# Altium integrated library Analog Devices RF IF Detectors.IntLib: 109 symbols (part 3 of 5)
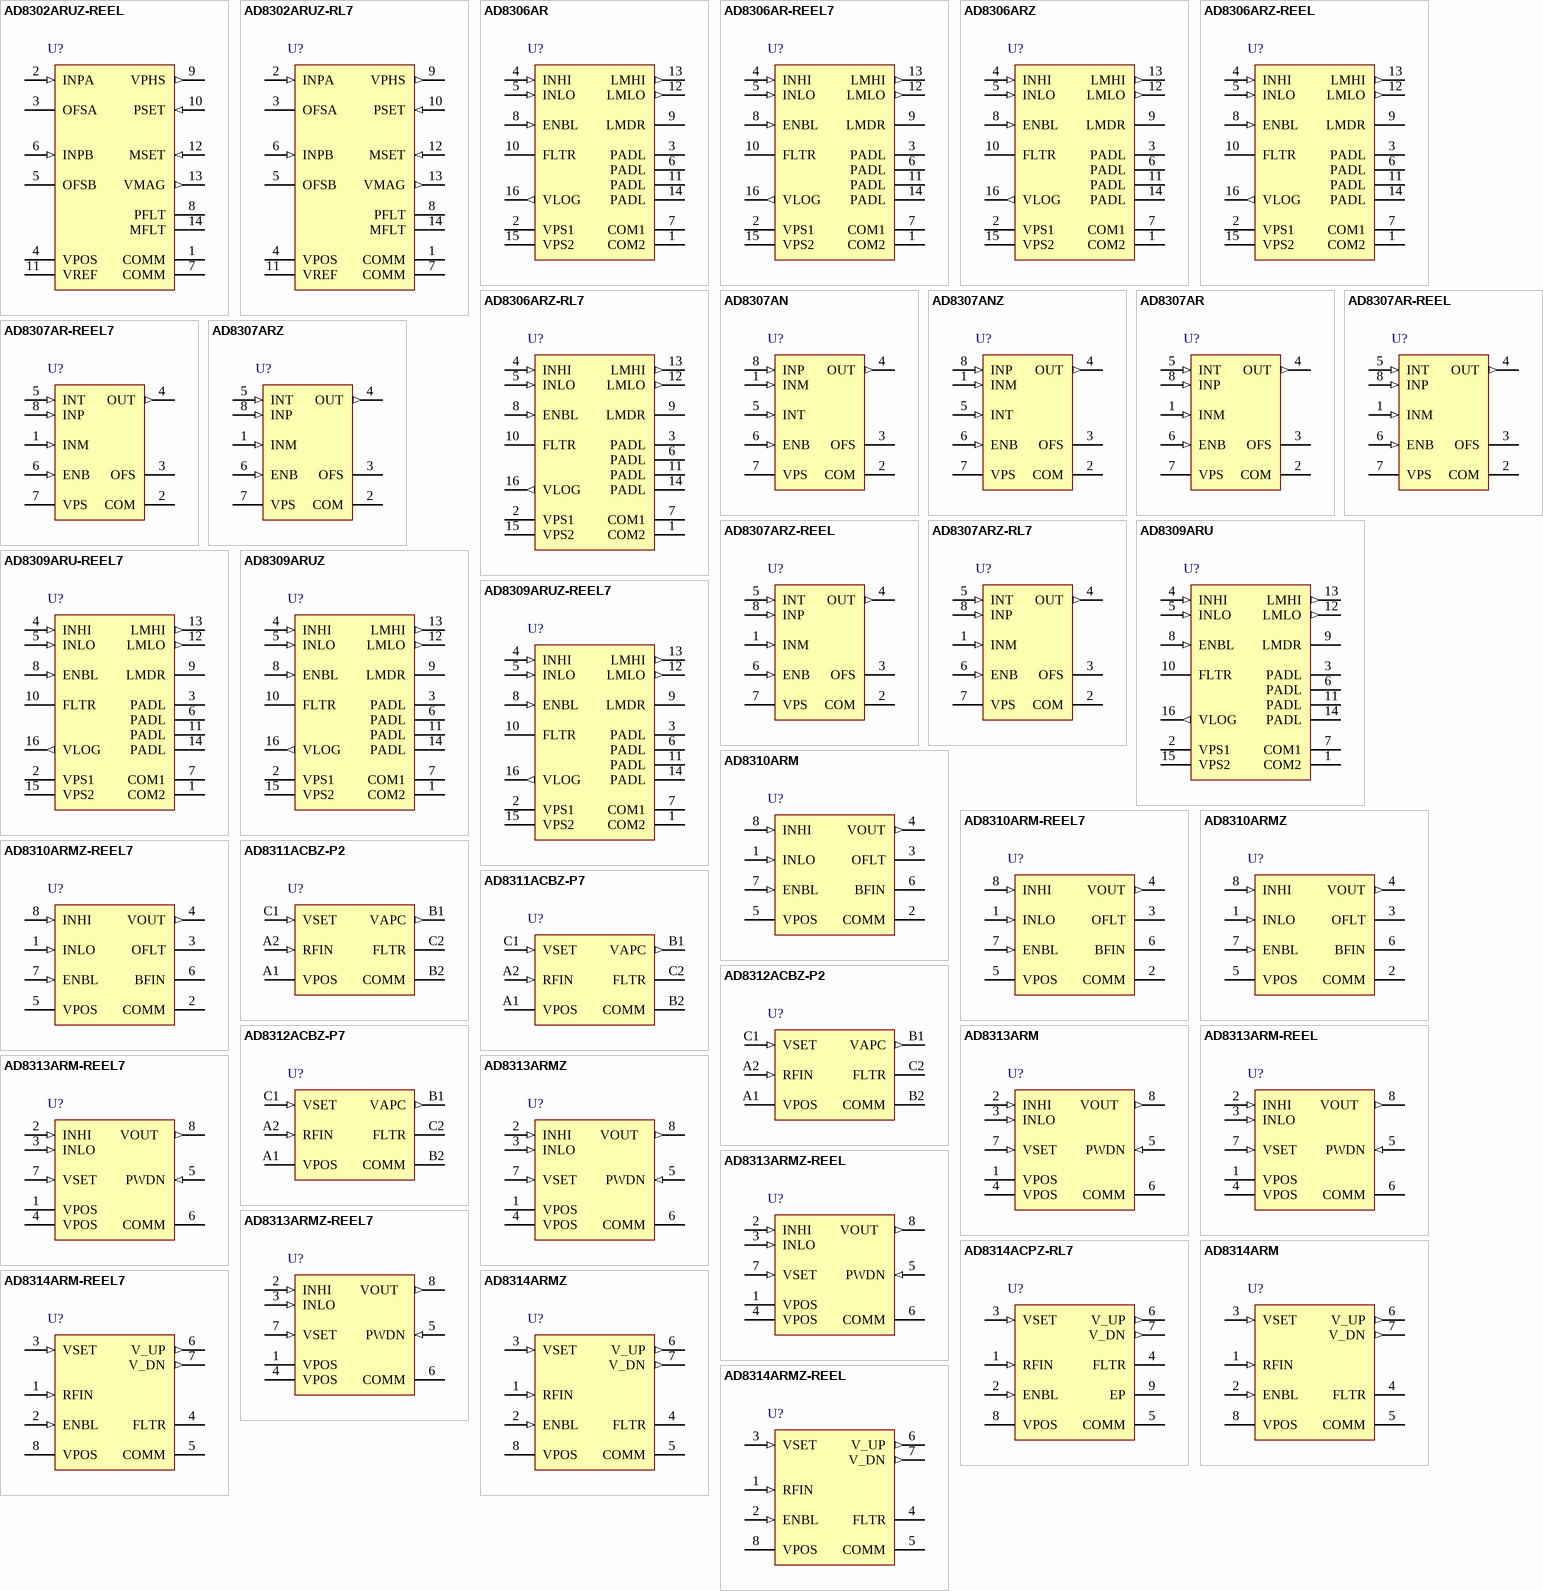
[diagram p5: symbols AD8302ARUZ-REEL to AD8314ARMZ-REEL]

## AD8313ARMZ-REEL
designator U?
0.1 GHz to 2.5 GHz 70 dB Logarithmic Detector/Controller, 40ns Response Time, RM-8, Pb-Free, 3000 Reel; Product Description: Industry Standard; RF Frequency (MHz): 100 to 2500; Dynamic Range (dB): 70dB; Temp Stability (dB): 1.25dB; Voltage Supply (V): 2.7 to 5.5; Supply Current: 14mA; DatasheetVersion: Rev. D; PackageVersion: Aug-2005; PackageReference: RM-8; PackageDescription: 8-Lead Mini Small Outline Package [MSOP]; Response Time (ns typ): 40ns; Code_JEDEC: MO-187-AA; ComponentLink1Description: Manufacturer URL; ComponentLink1URL: www.analog.com; ComponentLink2Description: Datasheet; ComponentLink2URL: http://www.analog.com/static/imported-files/data_sheets/AD8313.pdf; ComponentLink3Description: Package Specification; ComponentLink3URL: http://www.analog.com/static/imported-files/packages/PKG_PDF/MSOP%28RM%29/RM_8.pdf
footprint ADI-RM-8_N (TSOP, 8-Leads, Body 3x3mm, Pitch 0.65mm, IPC Medium Density)
footprint ADI-RM-8_L (TSOP, 8-Leads, Body 3x3mm, Pitch 0.65mm, IPC High Density)
footprint ADI-RM-8_M (TSOP, 8-Leads, Body 3x3mm, Pitch 0.65mm, IPC Low Density)
pins: 1 VPOS (power) "Positive Supply Voltage (VPOS), 2.7 V to 5.5 V.", 2 INHI (in) "Noninverting Input. This input should be ac-coupled.", 3 INLO (in) "Inverting Input. This input should be ac-coupled.", 4 VPOS (power) "Positive Supply Voltage (VPOS), 2.7 V to 5.5 V.", 5 PWDN (in) "Connect Pin to Ground for Normal Operating Mode. Connect this pin to the supply for power-down mode.", 6 COMM (power) "Device Common", 7 VSET (in) "Setpoint Input for Operation in Controller Mode. To operate in RSSI mode, short VSET and VOUT.", 8 VOUT   (out) "Logarithmic/Error Output."

## AD8313ARMZ-REEL7
designator U?
0.1 GHz to 2.5 GHz 70 dB Logarithmic Detector/Controller, 40ns Response Time, RM-8, Pb-Free, 1000 Reel; Product Description: Industry Standard; RF Frequency (MHz): 100 to 2500; Dynamic Range (dB): 70dB; Temp Stability (dB): 1.25dB; Voltage Supply (V): 2.7 to 5.5; Supply Current: 14mA; DatasheetVersion: Rev. D; PackageVersion: Aug-2005; PackageReference: RM-8; PackageDescription: 8-Lead Mini Small Outline Package [MSOP]; Response Time (ns typ): 40ns; Code_JEDEC: MO-187-AA; ComponentLink1Description: Manufacturer URL; ComponentLink1URL: www.analog.com; ComponentLink2Description: Datasheet; ComponentLink2URL: http://www.analog.com/static/imported-files/data_sheets/AD8313.pdf; ComponentLink3Description: Package Specification; ComponentLink3URL: http://www.analog.com/static/imported-files/packages/PKG_PDF/MSOP%28RM%29/RM_8.pdf
footprint ADI-RM-8_N (TSOP, 8-Leads, Body 3x3mm, Pitch 0.65mm, IPC Medium Density)
footprint ADI-RM-8_L (TSOP, 8-Leads, Body 3x3mm, Pitch 0.65mm, IPC High Density)
footprint ADI-RM-8_M (TSOP, 8-Leads, Body 3x3mm, Pitch 0.65mm, IPC Low Density)
pins: 1 VPOS (power) "Positive Supply Voltage (VPOS), 2.7 V to 5.5 V.", 2 INHI (in) "Noninverting Input. This input should be ac-coupled.", 3 INLO (in) "Inverting Input. This input should be ac-coupled.", 4 VPOS (power) "Positive Supply Voltage (VPOS), 2.7 V to 5.5 V.", 5 PWDN (in) "Connect Pin to Ground for Normal Operating Mode. Connect this pin to the supply for power-down mode.", 6 COMM (power) "Device Common", 7 VSET (in) "Setpoint Input for Operation in Controller Mode. To operate in RSSI mode, short VSET and VOUT.", 8 VOUT   (out) "Logarithmic/Error Output."

## AD8314ACPZ-RL7
designator U?
100 MHz to 2.7 GHz, 45 dB RF Detector/Controller, 70ns Response Time, CP-8-1, Pb-Free, 3000 Reel; Product Description: Industry Standard; RF Frequency (MHz): 100 to 2700; Dynamic Range (dB): 45dB; Temp Stability (dB): 1dB; Voltage Supply (V): 2.7 to 5.5; Supply Current: 4.5mA; DatasheetVersion: Rev. B; PackageVersion: 031207-A; PackageReference: CP-8-1; PackageDescription: 8-Lead Lead Frame Chip Scale Package [LFCSP_VD]; Response Time (ns typ): 70ns; ComponentLink1Description: Manufacturer URL; ComponentLink1URL: www.analog.com; ComponentLink2Description: Datasheet; ComponentLink2URL: http://www.analog.com/static/imported-files/data_sheets/AD8314.pdf; ComponentLink3Description: Package Specification; ComponentLink3URL: http://www.analog.com/static/imported-files/packages/PKG_PDF/LFCSP(CP)/CP-8/CP_8_1.pdf
footprint ADI-CP-8-1_N (SON, 8-Leads, Body 3x2mm, Pitch 0.5mm, Thermal Pad 1.75x0.45mm, IPC Medium Density)
footprint ADI-CP-8-1_L (SON, 8-Leads, Body 3x2mm, Pitch 0.5mm, Thermal Pad 1.75x0.45mm, IPC High Density)
footprint ADI-CP-8-1_M (SON, 8-Leads, Body 3x2mm, Pitch 0.5mm, Thermal Pad 1.75x0.45mm, IPC Low Density)
pins: 1 RFIN (in) "RF Input.", 2 ENBL (in) "Connect Pin to VS for Normal Operation. Connect pin to ground for disable mode.", 3 VSET (in) "Setpoint Input for Operation in Controller Mode. To operate in detector mode connect VSET to V_UP.", 4 FLTR "Connection for an External Capacitor to Slow the Response of the Output. Capacitor is connected between FLTR and V_UP.", 5 COMM (power) "Device Common (Ground)", 6 V_UP (out) "Logarithmic Output. Output voltage increases with increasing input amplitude.", 7 V_DN (out) "Inversion of V_UP, Governed by: V_DN = 2.25 V - 2 x VUP.", 8 VPOS (power) "Positive Supply Voltage (VS), 2.7 V to 5.5 V.", 9 EP (power) "Exposed Pad"

## AD8314ARM
designator U?
100 MHz to 2.7 GHz, 45 dB RF Detector/Controller, 70ns Response Time, RM-8, 50 Tube; Product Description: Industry Standard; RF Frequency (MHz): 100 to 2700; Dynamic Range (dB): 45dB; Temp Stability (dB): 1dB; Voltage Supply (V): 2.7 to 5.5; Supply Current: 4.5mA; DatasheetVersion: Rev. B; PackageVersion: Aug-2005; PackageReference: RM-8; PackageDescription: 8-Lead Mini Small Outline Package [MSOP]; Response Time (ns typ): 70ns; Code_JEDEC: MO-187-AA; ComponentLink1Description: Manufacturer URL; ComponentLink1URL: www.analog.com; ComponentLink2Description: Datasheet; ComponentLink2URL: http://www.analog.com/static/imported-files/data_sheets/AD8314.pdf; ComponentLink3Description: Package Specification; ComponentLink3URL: http://www.analog.com/static/imported-files/packages/PKG_PDF/MSOP%28RM%29/RM_8.pdf
footprint ADI-RM-8_N (TSOP, 8-Leads, Body 3x3mm, Pitch 0.65mm, IPC Medium Density)
footprint ADI-RM-8_L (TSOP, 8-Leads, Body 3x3mm, Pitch 0.65mm, IPC High Density)
footprint ADI-RM-8_M (TSOP, 8-Leads, Body 3x3mm, Pitch 0.65mm, IPC Low Density)
pins: 1 RFIN (in) "RF Input.", 2 ENBL (in) "Connect Pin to VS for Normal Operation. Connect pin to ground for disable mode.", 3 VSET (in) "Setpoint Input for Operation in Controller Mode. To operate in detector mode connect VSET to V_UP.", 4 FLTR "Connection for an External Capacitor to Slow the Response of the Output. Capacitor is connected between FLTR and V_UP.", 5 COMM (power) "Device Common (Ground)", 6 V_UP (out) "Logarithmic Output. Output voltage increases with increasing input amplitude.", 7 V_DN (out) "Inversion of V_UP, Governed by: V_DN = 2.25 V - 2 x VUP.", 8 VPOS (power) "Positive Supply Voltage (VS), 2.7 V to 5.5 V."

## AD8314ARM-REEL7
designator U?
100 MHz to 2.7 GHz, 45 dB RF Detector/Controller, 70ns Response Time, RM-8, 3000 Reel; Product Description: Industry Standard; RF Frequency (MHz): 100 to 2700; Dynamic Range (dB): 45dB; Temp Stability (dB): 1dB; Voltage Supply (V): 2.7 to 5.5; Supply Current: 4.5mA; DatasheetVersion: Rev. B; PackageVersion: Aug-2005; PackageReference: RM-8; PackageDescription: 8-Lead Mini Small Outline Package [MSOP]; Response Time (ns typ): 70ns; Code_JEDEC: MO-187-AA; ComponentLink1Description: Manufacturer URL; ComponentLink1URL: www.analog.com; ComponentLink2Description: Datasheet; ComponentLink2URL: http://www.analog.com/static/imported-files/data_sheets/AD8314.pdf; ComponentLink3Description: Package Specification; ComponentLink3URL: http://www.analog.com/static/imported-files/packages/PKG_PDF/MSOP%28RM%29/RM_8.pdf
footprint ADI-RM-8_N (TSOP, 8-Leads, Body 3x3mm, Pitch 0.65mm, IPC Medium Density)
footprint ADI-RM-8_L (TSOP, 8-Leads, Body 3x3mm, Pitch 0.65mm, IPC High Density)
footprint ADI-RM-8_M (TSOP, 8-Leads, Body 3x3mm, Pitch 0.65mm, IPC Low Density)
pins: 1 RFIN (in) "RF Input.", 2 ENBL (in) "Connect Pin to VS for Normal Operation. Connect pin to ground for disable mode.", 3 VSET (in) "Setpoint Input for Operation in Controller Mode. To operate in detector mode connect VSET to V_UP.", 4 FLTR "Connection for an External Capacitor to Slow the Response of the Output. Capacitor is connected between FLTR and V_UP.", 5 COMM (power) "Device Common (Ground)", 6 V_UP (out) "Logarithmic Output. Output voltage increases with increasing input amplitude.", 7 V_DN (out) "Inversion of V_UP, Governed by: V_DN = 2.25 V - 2 x VUP.", 8 VPOS (power) "Positive Supply Voltage (VS), 2.7 V to 5.5 V."

## AD8314ARMZ
designator U?
100 MHz to 2.7 GHz, 45 dB RF Detector/Controller, 70ns Response Time, RM-8, Pb-Free, 50 Tube; Product Description: Industry Standard; RF Frequency (MHz): 100 to 2700; Dynamic Range (dB): 45dB; Temp Stability (dB): 1dB; Voltage Supply (V): 2.7 to 5.5; Supply Current: 4.5mA; DatasheetVersion: Rev. B; PackageVersion: Aug-2005; PackageReference: RM-8; PackageDescription: 8-Lead Mini Small Outline Package [MSOP]; Response Time (ns typ): 70ns; Code_JEDEC: MO-187-AA; ComponentLink1Description: Manufacturer URL; ComponentLink1URL: www.analog.com; ComponentLink2Description: Datasheet; ComponentLink2URL: http://www.analog.com/static/imported-files/data_sheets/AD8314.pdf; ComponentLink3Description: Package Specification; ComponentLink3URL: http://www.analog.com/static/imported-files/packages/PKG_PDF/MSOP%28RM%29/RM_8.pdf
footprint ADI-RM-8_N (TSOP, 8-Leads, Body 3x3mm, Pitch 0.65mm, IPC Medium Density)
footprint ADI-RM-8_L (TSOP, 8-Leads, Body 3x3mm, Pitch 0.65mm, IPC High Density)
footprint ADI-RM-8_M (TSOP, 8-Leads, Body 3x3mm, Pitch 0.65mm, IPC Low Density)
pins: 1 RFIN (in) "RF Input.", 2 ENBL (in) "Connect Pin to VS for Normal Operation. Connect pin to ground for disable mode.", 3 VSET (in) "Setpoint Input for Operation in Controller Mode. To operate in detector mode connect VSET to V_UP.", 4 FLTR "Connection for an External Capacitor to Slow the Response of the Output. Capacitor is connected between FLTR and V_UP.", 5 COMM (power) "Device Common (Ground)", 6 V_UP (out) "Logarithmic Output. Output voltage increases with increasing input amplitude.", 7 V_DN (out) "Inversion of V_UP, Governed by: V_DN = 2.25 V - 2 x VUP.", 8 VPOS (power) "Positive Supply Voltage (VS), 2.7 V to 5.5 V."

## AD8314ARMZ-REEL
designator U?
100 MHz to 2.7 GHz, 45 dB RF Detector/Controller, 70ns Response Time, RM-8, Pb-Free, 3000 Reel; Product Description: Industry Standard; RF Frequency (MHz): 100 to 2700; Dynamic Range (dB): 45dB; Temp Stability (dB): 1dB; Voltage Supply (V): 2.7 to 5.5; Supply Current: 4.5mA; DatasheetVersion: Rev. B; PackageVersion: Aug-2005; PackageReference: RM-8; PackageDescription: 8-Lead Mini Small Outline Package [MSOP]; Response Time (ns typ): 70ns; Code_JEDEC: MO-187-AA; ComponentLink1Description: Manufacturer URL; ComponentLink1URL: www.analog.com; ComponentLink2Description: Datasheet; ComponentLink2URL: http://www.analog.com/static/imported-files/data_sheets/AD8314.pdf; ComponentLink3Description: Package Specification; ComponentLink3URL: http://www.analog.com/static/imported-files/packages/PKG_PDF/MSOP%28RM%29/RM_8.pdf
footprint ADI-RM-8_N (TSOP, 8-Leads, Body 3x3mm, Pitch 0.65mm, IPC Medium Density)
footprint ADI-RM-8_L (TSOP, 8-Leads, Body 3x3mm, Pitch 0.65mm, IPC High Density)
footprint ADI-RM-8_M (TSOP, 8-Leads, Body 3x3mm, Pitch 0.65mm, IPC Low Density)
pins: 1 RFIN (in) "RF Input.", 2 ENBL (in) "Connect Pin to VS for Normal Operation. Connect pin to ground for disable mode.", 3 VSET (in) "Setpoint Input for Operation in Controller Mode. To operate in detector mode connect VSET to V_UP.", 4 FLTR "Connection for an External Capacitor to Slow the Response of the Output. Capacitor is connected between FLTR and V_UP.", 5 COMM (power) "Device Common (Ground)", 6 V_UP (out) "Logarithmic Output. Output voltage increases with increasing input amplitude.", 7 V_DN (out) "Inversion of V_UP, Governed by: V_DN = 2.25 V - 2 x VUP.", 8 VPOS (power) "Positive Supply Voltage (VS), 2.7 V to 5.5 V."

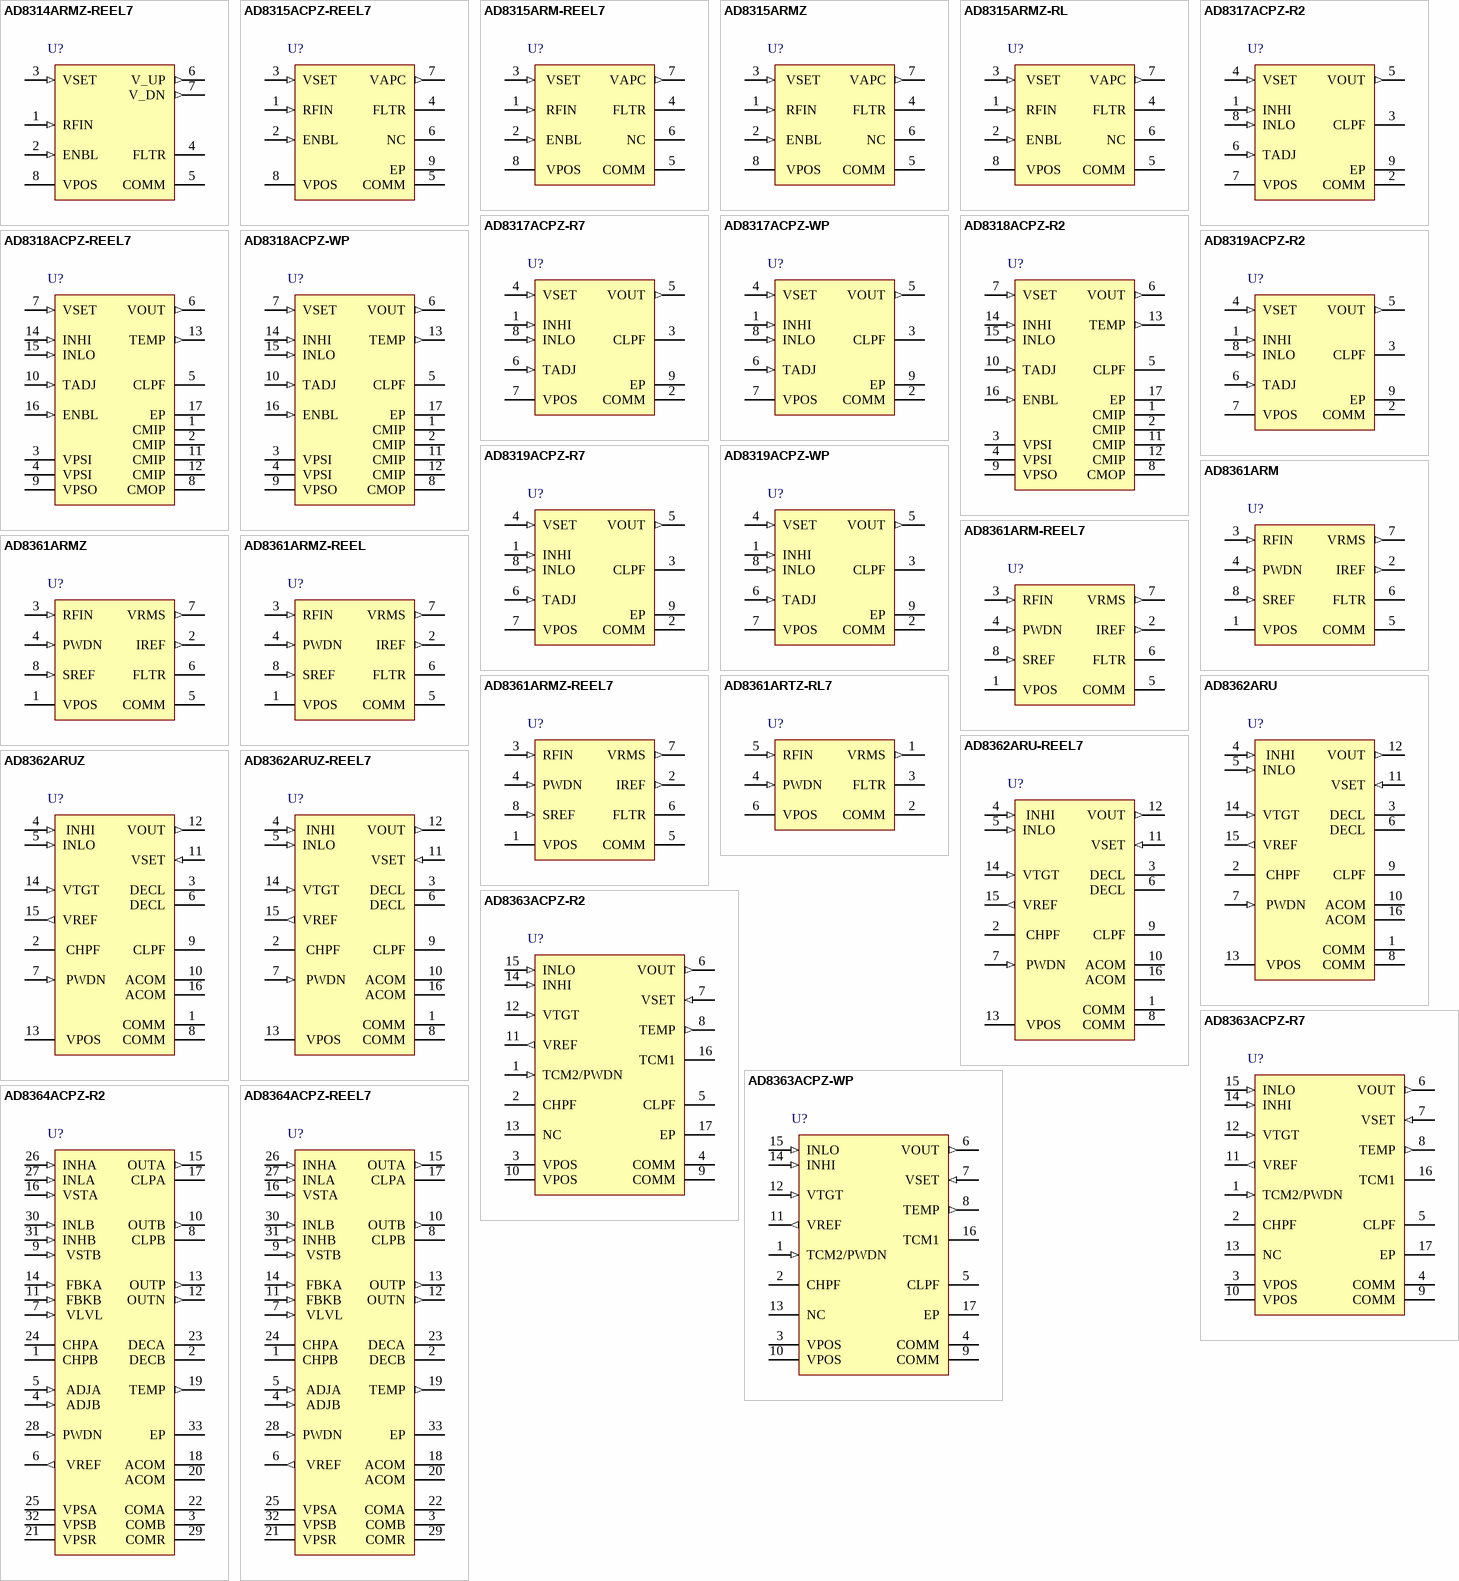
[diagram p2: symbols AD8314ARMZ-REEL7 to AD8364ACPZ-REEL7]

## AD8314ARMZ-REEL7
designator U?
100 MHz to 2.7 GHz, 45 dB RF Detector/Controller, 70ns Response Time, RM-8, Pb-Free, 1000 Reel; Product Description: Industry Standard; RF Frequency (MHz): 100 to 2700; Dynamic Range (dB): 45dB; Temp Stability (dB): 1dB; Voltage Supply (V): 2.7 to 5.5; Supply Current: 4.5mA; DatasheetVersion: Rev. B; PackageVersion: Aug-2005; PackageReference: RM-8; PackageDescription: 8-Lead Mini Small Outline Package [MSOP]; Response Time (ns typ): 70ns; Code_JEDEC: MO-187-AA; ComponentLink1Description: Manufacturer URL; ComponentLink1URL: www.analog.com; ComponentLink2Description: Datasheet; ComponentLink2URL: http://www.analog.com/static/imported-files/data_sheets/AD8314.pdf; ComponentLink3Description: Package Specification; ComponentLink3URL: http://www.analog.com/static/imported-files/packages/PKG_PDF/MSOP%28RM%29/RM_8.pdf
footprint ADI-RM-8_N (TSOP, 8-Leads, Body 3x3mm, Pitch 0.65mm, IPC Medium Density)
footprint ADI-RM-8_L (TSOP, 8-Leads, Body 3x3mm, Pitch 0.65mm, IPC High Density)
footprint ADI-RM-8_M (TSOP, 8-Leads, Body 3x3mm, Pitch 0.65mm, IPC Low Density)
pins: 1 RFIN (in) "RF Input.", 2 ENBL (in) "Connect Pin to VS for Normal Operation. Connect pin to ground for disable mode.", 3 VSET (in) "Setpoint Input for Operation in Controller Mode. To operate in detector mode connect VSET to V_UP.", 4 FLTR "Connection for an External Capacitor to Slow the Response of the Output. Capacitor is connected between FLTR and V_UP.", 5 COMM (power) "Device Common (Ground)", 6 V_UP (out) "Logarithmic Output. Output voltage increases with increasing input amplitude.", 7 V_DN (out) "Inversion of V_UP, Governed by: V_DN = 2.25 V - 2 x VUP.", 8 VPOS (power) "Positive Supply Voltage (VS), 2.7 V to 5.5 V."

## AD8315ACPZ-REEL7
designator U?
50 dB GSM PA Controller, 150ns Response Time, CP-8-1, Pb-Free, 3000 Reel; Product Description: Low Power for Battery Operation; RF Frequency (MHz): 100 to 2500; Dynamic Range (dB): 50dB; Temp Stability (dB): 1dB; Voltage Supply (V): 2.7 to 5.5; Supply Current: 8.5mA; DatasheetVersion: Rev. C; PackageVersion: 031207-A; PackageReference: CP-8-1; PackageDescription: 8-Lead Lead Frame Chip Scale Package [LFCSP_VD]; Response Time (ns typ): 150ns; ComponentLink1Description: Manufacturer URL; ComponentLink1URL: www.analog.com; ComponentLink2Description: Datasheet; ComponentLink2URL: http://www.analog.com/static/imported-files/data_sheets/AD8315.pdf; ComponentLink3Description: Package Specification; ComponentLink3URL: http://www.analog.com/static/imported-files/packages/PKG_PDF/LFCSP(CP)/CP-8/CP_8_1.pdf
footprint ADI-CP-8-1_N (SON, 8-Leads, Body 3x2mm, Pitch 0.5mm, Thermal Pad 1.75x0.45mm, IPC Medium Density)
footprint ADI-CP-8-1_L (SON, 8-Leads, Body 3x2mm, Pitch 0.5mm, Thermal Pad 1.75x0.45mm, IPC High Density)
footprint ADI-CP-8-1_M (SON, 8-Leads, Body 3x2mm, Pitch 0.5mm, Thermal Pad 1.75x0.45mm, IPC Low Density)
pins: 1 RFIN (in) "RF Input.", 2 ENBL (in) "Connect to VPOS for Normal Operation Connect Pin to Ground for Disable Mode.", 3 VSET (in) "Setpoint Input. Nominal input range 0.25 V to 1.4 V.", 4 FLTR "Integrator Capacitor. Connect between FLTR and COMM.", 5 COMM (power) "Device Common (Ground).", 6 NC "No Connection.", 7 VAPC (out) "Output. Control voltage for gain control element.", 8 VPOS (power) "Positive Supply Voltage: 2.7 V to 5.5 V.", 9 EP "Exposed Pad"

## AD8315ARM-REEL7
designator U?
50 dB GSM PA Controller, 150ns Response Time, RM-8, 1000 Reel; Product Description: Low Power for Battery Operation; RF Frequency (MHz): 100 to 2500; Dynamic Range (dB): 50dB; Temp Stability (dB): 1dB; Voltage Supply (V): 2.7 to 5.5; Supply Current: 8.5mA; DatasheetVersion: Rev. C; PackageVersion: Aug-2005; PackageReference: RM-8; PackageDescription: 8-Lead Mini Small Outline Package [MSOP]; Response Time (ns typ): 150ns; Code_JEDEC: MO-187-AA; ComponentLink1Description: Manufacturer URL; ComponentLink1URL: www.analog.com; ComponentLink2Description: Datasheet; ComponentLink2URL: http://www.analog.com/static/imported-files/data_sheets/AD8315.pdf; ComponentLink3Description: Package Specification; ComponentLink3URL: http://www.analog.com/static/imported-files/packages/PKG_PDF/MSOP%28RM%29/RM_8.pdf
footprint ADI-RM-8_N (TSOP, 8-Leads, Body 3x3mm, Pitch 0.65mm, IPC Medium Density)
footprint ADI-RM-8_L (TSOP, 8-Leads, Body 3x3mm, Pitch 0.65mm, IPC High Density)
footprint ADI-RM-8_M (TSOP, 8-Leads, Body 3x3mm, Pitch 0.65mm, IPC Low Density)
pins: 1  RFIN (in) "RF Input.", 2  ENBL (in) "Connect to VPOS for Normal Operation Connect Pin to Ground for Disable Mode.", 3  VSET (in) "Setpoint Input. Nominal input range 0.25 V to 1.4 V.", 4  FLTR "Integrator Capacitor. Connect between FLTR and COMM.", 5  COMM (power) "Device Common (Ground).", 6 NC "No Connection.", 7  VAPC (out) "Output. Control voltage for gain control element.", 8  VPOS (power) "Positive Supply Voltage: 2.7 V to 5.5 V."

## AD8315ARMZ
designator U?
50 dB GSM PA Controller, 150ns Response Time, RM-8, Pb-Free, 50 Tube; Product Description: Low Power for Battery Operation; RF Frequency (MHz): 100 to 2500; Dynamic Range (dB): 50dB; Temp Stability (dB): 1dB; Voltage Supply (V): 2.7 to 5.5; Supply Current: 8.5mA; DatasheetVersion: Rev. C; PackageVersion: Aug-2005; PackageReference: RM-8; PackageDescription: 8-Lead Mini Small Outline Package [MSOP]; Response Time (ns typ): 150ns; Code_JEDEC: MO-187-AA; ComponentLink1Description: Manufacturer URL; ComponentLink1URL: www.analog.com; ComponentLink2Description: Datasheet; ComponentLink2URL: http://www.analog.com/static/imported-files/data_sheets/AD8315.pdf; ComponentLink3Description: Package Specification; ComponentLink3URL: http://www.analog.com/static/imported-files/packages/PKG_PDF/MSOP%28RM%29/RM_8.pdf
footprint ADI-RM-8_N (TSOP, 8-Leads, Body 3x3mm, Pitch 0.65mm, IPC Medium Density)
footprint ADI-RM-8_L (TSOP, 8-Leads, Body 3x3mm, Pitch 0.65mm, IPC High Density)
footprint ADI-RM-8_M (TSOP, 8-Leads, Body 3x3mm, Pitch 0.65mm, IPC Low Density)
pins: 1  RFIN (in) "RF Input.", 2  ENBL (in) "Connect to VPOS for Normal Operation Connect Pin to Ground for Disable Mode.", 3  VSET (in) "Setpoint Input. Nominal input range 0.25 V to 1.4 V.", 4  FLTR "Integrator Capacitor. Connect between FLTR and COMM.", 5  COMM (power) "Device Common (Ground).", 6 NC "No Connection.", 7  VAPC (out) "Output. Control voltage for gain control element.", 8  VPOS (power) "Positive Supply Voltage: 2.7 V to 5.5 V."

## AD8315ARMZ-RL
designator U?
50 dB GSM PA Controller, 150ns Response Time, RM-8, Pb-Free, 3000 Reel; Product Description: Low Power for Battery Operation; RF Frequency (MHz): 100 to 2500; Dynamic Range (dB): 50dB; Temp Stability (dB): 1dB; Voltage Supply (V): 2.7 to 5.5; Supply Current: 8.5mA; DatasheetVersion: Rev. C; PackageVersion: Aug-2005; PackageReference: RM-8; PackageDescription: 8-Lead Mini Small Outline Package [MSOP]; Response Time (ns typ): 150ns; Code_JEDEC: MO-187-AA; ComponentLink1Description: Manufacturer URL; ComponentLink1URL: www.analog.com; ComponentLink2Description: Datasheet; ComponentLink2URL: http://www.analog.com/static/imported-files/data_sheets/AD8315.pdf; ComponentLink3Description: Package Specification; ComponentLink3URL: http://www.analog.com/static/imported-files/packages/PKG_PDF/MSOP%28RM%29/RM_8.pdf
footprint ADI-RM-8_N (TSOP, 8-Leads, Body 3x3mm, Pitch 0.65mm, IPC Medium Density)
footprint ADI-RM-8_L (TSOP, 8-Leads, Body 3x3mm, Pitch 0.65mm, IPC High Density)
footprint ADI-RM-8_M (TSOP, 8-Leads, Body 3x3mm, Pitch 0.65mm, IPC Low Density)
pins: 1  RFIN (in) "RF Input.", 2  ENBL (in) "Connect to VPOS for Normal Operation Connect Pin to Ground for Disable Mode.", 3  VSET (in) "Setpoint Input. Nominal input range 0.25 V to 1.4 V.", 4  FLTR "Integrator Capacitor. Connect between FLTR and COMM.", 5  COMM (power) "Device Common (Ground).", 6 NC "No Connection.", 7  VAPC (out) "Output. Control voltage for gain control element.", 8  VPOS (power) "Positive Supply Voltage: 2.7 V to 5.5 V."

## AD8317ACPZ-R2
designator U?
1 MHz to 10 GHz, 55 dB Log Detector/Controller, 6ns Response Time, CP-8-1, Pb-Free, 250 Reel; Product Description: Available in Die; RF Frequency (MHz): 1 to 10000; Dynamic Range (dB): 55dB; Temp Stability (dB): 500mdB; Voltage Supply (V): 3 to 5.5; Supply Current: 22mA; DatasheetVersion: Rev. B; PackageVersion: 031207-A; PackageReference: CP-8-1; PackageDescription: 8-Lead Lead Frame Chip Scale Package [LFCSP_VD]; Response Time (ns typ): 6ns; ComponentLink1Description: Manufacturer URL; ComponentLink1URL: www.analog.com; ComponentLink2Description: Datasheet; ComponentLink2URL: http://www.analog.com/static/imported-files/data_sheets/AD8317.pdf; ComponentLink3Description: Package Specification; ComponentLink3URL: http://www.analog.com/static/imported-files/packages/PKG_PDF/LFCSP(CP)/CP-8/CP_8_1.pdf
footprint ADI-CP-8-1_N (SON, 8-Leads, Body 3x2mm, Pitch 0.5mm, Thermal Pad 1.75x0.45mm, IPC Medium Density)
footprint ADI-CP-8-1_L (SON, 8-Leads, Body 3x2mm, Pitch 0.5mm, Thermal Pad 1.75x0.45mm, IPC High Density)
footprint ADI-CP-8-1_M (SON, 8-Leads, Body 3x2mm, Pitch 0.5mm, Thermal Pad 1.75x0.45mm, IPC Low Density)
pins: 1 INHI (in) "RF Input. Nominal input range of -50 dBm to 0 dBm, re: 50 ohm; ac-coupled RF input.", 2 COMM (power) "Device Common. Connect to a low impedance ground plane.", 3 CLPF "Loop Filter Capacitor. In measurement mode, this capacitor sets the pulse response time and video bandwidth. In controller mode, the capacitance on this node sets the response time of the error amplifier/integrator.", 4 VSET (in) "Setpoint Control Input for Controller Mode or Feedback Input for Measurement Mode.", 5 VOUT (out) "Measurement and Controller Output. In measurement mode, VOUT provides a decreasing linear-in-dB representation of the RF input signal amplitude.[see datasheet].", 6 TADJ (in) "Temperature Compensation Adjustment. Frequency-dependent temperature compensation is set by connecting a ground-referenced resistor to this pin.", 7 VPOS (power) "Positive Supply Voltage: 3.0 V to 5.5 V.", 8 INLO (in) "RF Common for INHI. AC-coupled RF common.", 9 EP (power) "Internally connected to COMM; solder to a low impedance ground plane."

## AD8317ACPZ-R7
designator U?
1 MHz to 10 GHz, 55 dB Log Detector/Controller, 6ns Response Time, CP-8-1, Pb-Free, 3000 Reel; Product Description: Available in Die; RF Frequency (MHz): 1 to 10000; Dynamic Range (dB): 55dB; Temp Stability (dB): 500mdB; Voltage Supply (V): 3 to 5.5; Supply Current: 22mA; DatasheetVersion: Rev. B; PackageVersion: 031207-A; PackageReference: CP-8-1; PackageDescription: 8-Lead Lead Frame Chip Scale Package [LFCSP_VD]; Response Time (ns typ): 6ns; ComponentLink1Description: Manufacturer URL; ComponentLink1URL: www.analog.com; ComponentLink2Description: Datasheet; ComponentLink2URL: http://www.analog.com/static/imported-files/data_sheets/AD8317.pdf; ComponentLink3Description: Package Specification; ComponentLink3URL: http://www.analog.com/static/imported-files/packages/PKG_PDF/LFCSP(CP)/CP-8/CP_8_1.pdf
footprint ADI-CP-8-1_N (SON, 8-Leads, Body 3x2mm, Pitch 0.5mm, Thermal Pad 1.75x0.45mm, IPC Medium Density)
footprint ADI-CP-8-1_L (SON, 8-Leads, Body 3x2mm, Pitch 0.5mm, Thermal Pad 1.75x0.45mm, IPC High Density)
footprint ADI-CP-8-1_M (SON, 8-Leads, Body 3x2mm, Pitch 0.5mm, Thermal Pad 1.75x0.45mm, IPC Low Density)
pins: 1 INHI (in) "RF Input. Nominal input range of -50 dBm to 0 dBm, re: 50 ohm; ac-coupled RF input.", 2 COMM (power) "Device Common. Connect to a low impedance ground plane.", 3 CLPF "Loop Filter Capacitor. In measurement mode, this capacitor sets the pulse response time and video bandwidth. In controller mode, the capacitance on this node sets the response time of the error amplifier/integrator.", 4 VSET (in) "Setpoint Control Input for Controller Mode or Feedback Input for Measurement Mode.", 5 VOUT (out) "Measurement and Controller Output. In measurement mode, VOUT provides a decreasing linear-in-dB representation of the RF input signal amplitude.[see datasheet].", 6 TADJ (in) "Temperature Compensation Adjustment. Frequency-dependent temperature compensation is set by connecting a ground-referenced resistor to this pin.", 7 VPOS (power) "Positive Supply Voltage: 3.0 V to 5.5 V.", 8 INLO (in) "RF Common for INHI. AC-coupled RF common.", 9 EP (power) "Internally connected to COMM; solder to a low impedance ground plane."

## AD8317ACPZ-WP
designator U?
1 MHz to 10 GHz, 55 dB Log Detector/Controller, 6ns Response Time, CP-8-1, Pb-Free, 50 Tray; Product Description: Available in Die; RF Frequency (MHz): 1 to 10000; Dynamic Range (dB): 55dB; Temp Stability (dB): 500mdB; Voltage Supply (V): 3 to 5.5; Supply Current: 22mA; DatasheetVersion: Rev. B; PackageVersion: 031207-A; PackageReference: CP-8-1; PackageDescription: 8-Lead Lead Frame Chip Scale Package [LFCSP_VD]; Response Time (ns typ): 6ns; ComponentLink1Description: Manufacturer URL; ComponentLink1URL: www.analog.com; ComponentLink2Description: Datasheet; ComponentLink2URL: http://www.analog.com/static/imported-files/data_sheets/AD8317.pdf; ComponentLink3Description: Package Specification; ComponentLink3URL: http://www.analog.com/static/imported-files/packages/PKG_PDF/LFCSP(CP)/CP-8/CP_8_1.pdf
footprint ADI-CP-8-1_N (SON, 8-Leads, Body 3x2mm, Pitch 0.5mm, Thermal Pad 1.75x0.45mm, IPC Medium Density)
footprint ADI-CP-8-1_L (SON, 8-Leads, Body 3x2mm, Pitch 0.5mm, Thermal Pad 1.75x0.45mm, IPC High Density)
footprint ADI-CP-8-1_M (SON, 8-Leads, Body 3x2mm, Pitch 0.5mm, Thermal Pad 1.75x0.45mm, IPC Low Density)
pins: 1 INHI (in) "RF Input. Nominal input range of -50 dBm to 0 dBm, re: 50 ohm; ac-coupled RF input.", 2 COMM (power) "Device Common. Connect to a low impedance ground plane.", 3 CLPF "Loop Filter Capacitor. In measurement mode, this capacitor sets the pulse response time and video bandwidth. In controller mode, the capacitance on this node sets the response time of the error amplifier/integrator.", 4 VSET (in) "Setpoint Control Input for Controller Mode or Feedback Input for Measurement Mode.", 5 VOUT (out) "Measurement and Controller Output. In measurement mode, VOUT provides a decreasing linear-in-dB representation of the RF input signal amplitude.[see datasheet].", 6 TADJ (in) "Temperature Compensation Adjustment. Frequency-dependent temperature compensation is set by connecting a ground-referenced resistor to this pin.", 7 VPOS (power) "Positive Supply Voltage: 3.0 V to 5.5 V.", 8 INLO (in) "RF Common for INHI. AC-coupled RF common.", 9 EP (power) "Internally connected to COMM; solder to a low impedance ground plane."

## AD8318ACPZ-R2
designator U?
1 MHz to 8 GHz, 70 dB Logarithmic Detector/Controller, 10ns Response Time, CP-16-4, Pb-Free, 250 Reel; Product Description: Integrated Temp Sensor; RF Frequency (MHz): 1 to 8000; Dynamic Range (dB): 70dB; Temp Stability (dB): 500mdB; Voltage Supply (V): 4.5 to 5.5; Supply Current: 68mA; DatasheetVersion: Rev. B; PackageVersion: 010606-0; PackageReference: CP-16-4; PackageDescription: 16-Lead Lead Frame Chip Scale Package [LFCSP_VQ]; Response Time (ns typ): 10ns; Code_JEDEC: MO-220-VGGC; ComponentLink1Description: Manufacturer URL; ComponentLink1URL: www.analog.com; ComponentLink2Description: Datasheet; ComponentLink2URL: http://www.analog.com/static/imported-files/data_sheets/AD8318.pdf; ComponentLink3Description: Package Specification; ComponentLink3URL: http://www.analog.com/static/imported-files/packages/46009454504174339653421710019CP_16_4.pdf
footprint ADI-CP-16-4_N (QFN, 16-Leads, Body 4x4mm, Pitch 0.65mm, Thermal Pad 2.1x2.1mm, IPC Medium Density)
footprint ADI-CP-16-4_L (QFN, 16-Leads, Body 4x4mm, Pitch 0.65mm, Thermal Pad 2.1x2.1mm, IPC High Density)
footprint ADI-CP-16-4_M (QFN, 16-Leads, Body 4x4mm, Pitch 0.65mm, Thermal Pad 2.1x2.1mm, IPC Low Density)
pins: 1 CMIP (power) "Device Common (Input System Ground)", 2 CMIP (power) "Device Common (Input System Ground)", 3 VPSI (power) "Positive Supply Voltage (Input System): 4.5 V to 5.5 V. Voltage on Pin 3, Pin 4, and Pin 9 should be equal", 4 VPSI (power) "Positive Supply Voltage (Input System): 4.5 V to 5.5 V. Voltage on Pin 3, Pin 4, and Pin 9 should be equal", 5 CLPF "Loop Filter Capacitor.", 6 VOUT (out) "Measurement and Controller Output.", 7 VSET (in) "Setpoint Input for Controller Mode or Feedback Input for Measurement Mode.", 8 CMOP (power) "Device Common (Output System Ground).", 9 VPSO (power) "Positive Supply Voltage (Output System): 4.5 V to 5.5 V. Voltage on Pin 3, Pin 4, and Pin 9 should be equal.", 10 TADJ (in) "Temperature Compensation Adjustment", 11 CMIP (power) "Device Common (Input System Ground)", 12 CMIP (power) "Device Common (Input System Ground)", 13 TEMP (out) "Temperature Sensor Output.", 14 INHI (in) "RF Input. Nominal input range: -60 dBm to 0 dBm (re: 50 ohm), ac-coupled", 15 INLO (in) "RF Common for INHI. AC-coupled RF common.", 16 ENBL (in) "Device Enable. Connect to VPSI for normal operation. Connect pin to ground for disable mode.", 17 EP (power) "Internally Connected to CMIP (Solder to Ground)"

## AD8318ACPZ-REEL7
designator U?
1 MHz to 8 GHz, 70 dB Logarithmic Detector/Controller, 10ns Response Time, CP-16-4, Pb-Free, 1500 Reel; Product Description: Integrated Temp Sensor; RF Frequency (MHz): 1 to 8000; Dynamic Range (dB): 70dB; Temp Stability (dB): 500mdB; Voltage Supply (V): 4.5 to 5.5; Supply Current: 68mA; DatasheetVersion: Rev. B; PackageVersion: 010606-0; PackageReference: CP-16-4; PackageDescription: 16-Lead Lead Frame Chip Scale Package [LFCSP_VQ]; Response Time (ns typ): 10ns; Code_JEDEC: MO-220-VGGC; ComponentLink1Description: Manufacturer URL; ComponentLink1URL: www.analog.com; ComponentLink2Description: Datasheet; ComponentLink2URL: http://www.analog.com/static/imported-files/data_sheets/AD8318.pdf; ComponentLink3Description: Package Specification; ComponentLink3URL: http://www.analog.com/static/imported-files/packages/46009454504174339653421710019CP_16_4.pdf
footprint ADI-CP-16-4_N (QFN, 16-Leads, Body 4x4mm, Pitch 0.65mm, Thermal Pad 2.1x2.1mm, IPC Medium Density)
footprint ADI-CP-16-4_L (QFN, 16-Leads, Body 4x4mm, Pitch 0.65mm, Thermal Pad 2.1x2.1mm, IPC High Density)
footprint ADI-CP-16-4_M (QFN, 16-Leads, Body 4x4mm, Pitch 0.65mm, Thermal Pad 2.1x2.1mm, IPC Low Density)
pins: 1 CMIP (power) "Device Common (Input System Ground)", 2 CMIP (power) "Device Common (Input System Ground)", 3 VPSI (power) "Positive Supply Voltage (Input System): 4.5 V to 5.5 V. Voltage on Pin 3, Pin 4, and Pin 9 should be equal", 4 VPSI (power) "Positive Supply Voltage (Input System): 4.5 V to 5.5 V. Voltage on Pin 3, Pin 4, and Pin 9 should be equal", 5 CLPF "Loop Filter Capacitor.", 6 VOUT (out) "Measurement and Controller Output.", 7 VSET (in) "Setpoint Input for Controller Mode or Feedback Input for Measurement Mode.", 8 CMOP (power) "Device Common (Output System Ground).", 9 VPSO (power) "Positive Supply Voltage (Output System): 4.5 V to 5.5 V. Voltage on Pin 3, Pin 4, and Pin 9 should be equal.", 10 TADJ (in) "Temperature Compensation Adjustment", 11 CMIP (power) "Device Common (Input System Ground)", 12 CMIP (power) "Device Common (Input System Ground)", 13 TEMP (out) "Temperature Sensor Output.", 14 INHI (in) "RF Input. Nominal input range: -60 dBm to 0 dBm (re: 50 ohm), ac-coupled", 15 INLO (in) "RF Common for INHI. AC-coupled RF common.", 16 ENBL (in) "Device Enable. Connect to VPSI for normal operation. Connect pin to ground for disable mode.", 17 EP (power) "Internally Connected to CMIP (Solder to Ground)"

## AD8318ACPZ-WP
designator U?
1 MHz to 8 GHz, 70 dB Logarithmic Detector/Controller, 10ns Response Time, CP-16-4, Pb-Free, 64 Tray; Product Description: Integrated Temp Sensor; RF Frequency (MHz): 1 to 8000; Dynamic Range (dB): 70dB; Temp Stability (dB): 500mdB; Voltage Supply (V): 4.5 to 5.5; Supply Current: 68mA; DatasheetVersion: Rev. B; PackageVersion: 010606-0; PackageReference: CP-16-4; PackageDescription: 16-Lead Lead Frame Chip Scale Package [LFCSP_VQ]; Response Time (ns typ): 10ns; Code_JEDEC: MO-220-VGGC; ComponentLink1Description: Manufacturer URL; ComponentLink1URL: www.analog.com; ComponentLink2Description: Datasheet; ComponentLink2URL: http://www.analog.com/static/imported-files/data_sheets/AD8318.pdf; ComponentLink3Description: Package Specification; ComponentLink3URL: http://www.analog.com/static/imported-files/packages/46009454504174339653421710019CP_16_4.pdf
footprint ADI-CP-16-4_N (QFN, 16-Leads, Body 4x4mm, Pitch 0.65mm, Thermal Pad 2.1x2.1mm, IPC Medium Density)
footprint ADI-CP-16-4_L (QFN, 16-Leads, Body 4x4mm, Pitch 0.65mm, Thermal Pad 2.1x2.1mm, IPC High Density)
footprint ADI-CP-16-4_M (QFN, 16-Leads, Body 4x4mm, Pitch 0.65mm, Thermal Pad 2.1x2.1mm, IPC Low Density)
pins: 1 CMIP (power) "Device Common (Input System Ground)", 2 CMIP (power) "Device Common (Input System Ground)", 3 VPSI (power) "Positive Supply Voltage (Input System): 4.5 V to 5.5 V. Voltage on Pin 3, Pin 4, and Pin 9 should be equal", 4 VPSI (power) "Positive Supply Voltage (Input System): 4.5 V to 5.5 V. Voltage on Pin 3, Pin 4, and Pin 9 should be equal", 5 CLPF "Loop Filter Capacitor.", 6 VOUT (out) "Measurement and Controller Output.", 7 VSET (in) "Setpoint Input for Controller Mode or Feedback Input for Measurement Mode.", 8 CMOP (power) "Device Common (Output System Ground).", 9 VPSO (power) "Positive Supply Voltage (Output System): 4.5 V to 5.5 V. Voltage on Pin 3, Pin 4, and Pin 9 should be equal.", 10 TADJ (in) "Temperature Compensation Adjustment", 11 CMIP (power) "Device Common (Input System Ground)", 12 CMIP (power) "Device Common (Input System Ground)", 13 TEMP (out) "Temperature Sensor Output.", 14 INHI (in) "RF Input. Nominal input range: -60 dBm to 0 dBm (re: 50 ohm), ac-coupled", 15 INLO (in) "RF Common for INHI. AC-coupled RF common.", 16 ENBL (in) "Device Enable. Connect to VPSI for normal operation. Connect pin to ground for disable mode.", 17 EP (power) "Internally Connected to CMIP (Solder to Ground)"

## AD8319ACPZ-R2
designator U?
1 MHz to 10 GHz, 45 dB Log Detector/Controller, 6ns Response Time, CP-8-1, Pb-Free, 250 Reel; Product Description: Available in Die; RF Frequency (MHz): 1 to 10000; Dynamic Range (dB): 45dB; Temp Stability (dB): 500mdB; Voltage Supply (V): 3 to 5.5; Supply Current: 22mA; DatasheetVersion: Rev. B; PackageVersion: 031207-A; PackageReference: CP-8-1; PackageDescription: 8-Lead Lead Frame Chip Scale Package [LFCSP_VD]; Response Time (ns typ): 6ns; ComponentLink1Description: Manufacturer URL; ComponentLink1URL: www.analog.com; ComponentLink2Description: Datasheet; ComponentLink2URL: http://www.analog.com/static/imported-files/data_sheets/AD8319.pdf; ComponentLink3Description: Package Specification; ComponentLink3URL: http://www.analog.com/static/imported-files/packages/PKG_PDF/LFCSP(CP)/CP-8/CP_8_1.pdf
footprint ADI-CP-8-1_N (SON, 8-Leads, Body 3x2mm, Pitch 0.5mm, Thermal Pad 1.75x0.45mm, IPC Medium Density)
footprint ADI-CP-8-1_L (SON, 8-Leads, Body 3x2mm, Pitch 0.5mm, Thermal Pad 1.75x0.45mm, IPC High Density)
footprint ADI-CP-8-1_M (SON, 8-Leads, Body 3x2mm, Pitch 0.5mm, Thermal Pad 1.75x0.45mm, IPC Low Density)
pins: 1 INHI (in) "RF Input. Nominal input range of -50 dBm to 0 dBm, re: 50 ohm; ac-coupled RF input.", 2 COMM (power) "Device Common. Connect to a low impedance ground plane.", 3 CLPF "Loop Filter Capacitor. In measurement mode, this capacitor sets the pulse response time and video bandwidth. In controller mode, the capacitance on this node sets the response time of the error amplifier/integrator.", 4 VSET (in) "Setpoint Control Input for Controller Mode or Feedback Input for Measurement Mode.", 5 VOUT (out) "Measurement and Controller Output. In measurement mode, VOUT provides a decreasing linear-in-dB representation of the RF input signal amplitude.[see datasheet].", 6 TADJ (in) "Temperature Compensation Adjustment. Frequency-dependent temperature compensation is set by connecting a ground-referenced resistor to this pin.", 7 VPOS (power) "Positive Supply Voltage: 3.0 V to 5.5 V.", 8 INLO (in) "RF Common for INHI. AC-coupled RF common.", 9 EP (power) "Internally connected to COMM; solder to a low impedance ground plane."

## AD8319ACPZ-R7
designator U?
1 MHz to 10 GHz, 45 dB Log Detector/Controller, 6ns Response Time, CP-8-1, Pb-Free, 3000 Reel; Product Description: Available in Die; RF Frequency (MHz): 1 to 10000; Dynamic Range (dB): 45dB; Temp Stability (dB): 500mdB; Voltage Supply (V): 3 to 5.5; Supply Current: 22mA; DatasheetVersion: Rev. B; PackageVersion: 031207-A; PackageReference: CP-8-1; PackageDescription: 8-Lead Lead Frame Chip Scale Package [LFCSP_VD]; Response Time (ns typ): 6ns; ComponentLink1Description: Manufacturer URL; ComponentLink1URL: www.analog.com; ComponentLink2Description: Datasheet; ComponentLink2URL: http://www.analog.com/static/imported-files/data_sheets/AD8319.pdf; ComponentLink3Description: Package Specification; ComponentLink3URL: http://www.analog.com/static/imported-files/packages/PKG_PDF/LFCSP(CP)/CP-8/CP_8_1.pdf
footprint ADI-CP-8-1_N (SON, 8-Leads, Body 3x2mm, Pitch 0.5mm, Thermal Pad 1.75x0.45mm, IPC Medium Density)
footprint ADI-CP-8-1_L (SON, 8-Leads, Body 3x2mm, Pitch 0.5mm, Thermal Pad 1.75x0.45mm, IPC High Density)
footprint ADI-CP-8-1_M (SON, 8-Leads, Body 3x2mm, Pitch 0.5mm, Thermal Pad 1.75x0.45mm, IPC Low Density)
pins: 1 INHI (in) "RF Input. Nominal input range of -50 dBm to 0 dBm, re: 50 ohm; ac-coupled RF input.", 2 COMM (power) "Device Common. Connect to a low impedance ground plane.", 3 CLPF "Loop Filter Capacitor. In measurement mode, this capacitor sets the pulse response time and video bandwidth. In controller mode, the capacitance on this node sets the response time of the error amplifier/integrator.", 4 VSET (in) "Setpoint Control Input for Controller Mode or Feedback Input for Measurement Mode.", 5 VOUT (out) "Measurement and Controller Output. In measurement mode, VOUT provides a decreasing linear-in-dB representation of the RF input signal amplitude.[see datasheet].", 6 TADJ (in) "Temperature Compensation Adjustment. Frequency-dependent temperature compensation is set by connecting a ground-referenced resistor to this pin.", 7 VPOS (power) "Positive Supply Voltage: 3.0 V to 5.5 V.", 8 INLO (in) "RF Common for INHI. AC-coupled RF common.", 9 EP (power) "Internally connected to COMM; solder to a low impedance ground plane."

## AD8319ACPZ-WP
designator U?
1 MHz to 10 GHz, 45 dB Log Detector/Controller, 6ns Response Time, CP-8-1, Pb-Free, 50 Tray; Product Description: Available in Die; RF Frequency (MHz): 1 to 10000; Dynamic Range (dB): 45dB; Temp Stability (dB): 500mdB; Voltage Supply (V): 3 to 5.5; Supply Current: 22mA; DatasheetVersion: Rev. B; PackageVersion: 031207-A; PackageReference: CP-8-1; PackageDescription: 8-Lead Lead Frame Chip Scale Package [LFCSP_VD]; Response Time (ns typ): 6ns; ComponentLink1Description: Manufacturer URL; ComponentLink1URL: www.analog.com; ComponentLink2Description: Datasheet; ComponentLink2URL: http://www.analog.com/static/imported-files/data_sheets/AD8319.pdf; ComponentLink3Description: Package Specification; ComponentLink3URL: http://www.analog.com/static/imported-files/packages/PKG_PDF/LFCSP(CP)/CP-8/CP_8_1.pdf
footprint ADI-CP-8-1_N (SON, 8-Leads, Body 3x2mm, Pitch 0.5mm, Thermal Pad 1.75x0.45mm, IPC Medium Density)
footprint ADI-CP-8-1_L (SON, 8-Leads, Body 3x2mm, Pitch 0.5mm, Thermal Pad 1.75x0.45mm, IPC High Density)
footprint ADI-CP-8-1_M (SON, 8-Leads, Body 3x2mm, Pitch 0.5mm, Thermal Pad 1.75x0.45mm, IPC Low Density)
pins: 1 INHI (in) "RF Input. Nominal input range of -50 dBm to 0 dBm, re: 50 ohm; ac-coupled RF input.", 2 COMM (power) "Device Common. Connect to a low impedance ground plane.", 3 CLPF "Loop Filter Capacitor. In measurement mode, this capacitor sets the pulse response time and video bandwidth. In controller mode, the capacitance on this node sets the response time of the error amplifier/integrator.", 4 VSET (in) "Setpoint Control Input for Controller Mode or Feedback Input for Measurement Mode.", 5 VOUT (out) "Measurement and Controller Output. In measurement mode, VOUT provides a decreasing linear-in-dB representation of the RF input signal amplitude.[see datasheet].", 6 TADJ (in) "Temperature Compensation Adjustment. Frequency-dependent temperature compensation is set by connecting a ground-referenced resistor to this pin.", 7 VPOS (power) "Positive Supply Voltage: 3.0 V to 5.5 V.", 8 INLO (in) "RF Common for INHI. AC-coupled RF common.", 9 EP (power) "Internally connected to COMM; solder to a low impedance ground plane."

## AD8361ARM
designator U?
LF to 2.5 GHz TruPwr™ Detector, 5µs Response Time, RM-8, 50 Tube; Product Description: Low Power RMS Detector; RF Frequency (MHz): 2.5GHz; Dynamic Range (dB): 30dB; Temp Stability (dB): 250mdB; Voltage Supply (V): 2.7 to 5.5; Supply Current: 1.1mA; Output Response: Linear in Voltage; DatasheetVersion: Rev. C; PackageVersion: Aug-2005; PackageReference: RM-8; PackageDescription: 8-Lead Mini Small Outline Package [MSOP]; Response Time (ns typ): 5µs; Code_JEDEC: MO-187-AA; ComponentLink1Description: Manufacturer URL; ComponentLink1URL: www.analog.com; ComponentLink2Description: Datasheet; ComponentLink2URL: http://www.analog.com/static/imported-files/data_sheets/AD8361.pdf; ComponentLink3Description: Package Specification; ComponentLink3URL: http://www.analog.com/static/imported-files/packages/PKG_PDF/MSOP%28RM%29/RM_8.pdf
footprint ADI-RM-8_N (TSOP, 8-Leads, Body 3x3mm, Pitch 0.65mm, IPC Medium Density)
footprint ADI-RM-8_L (TSOP, 8-Leads, Body 3x3mm, Pitch 0.65mm, IPC High Density)
footprint ADI-RM-8_M (TSOP, 8-Leads, Body 3x3mm, Pitch 0.65mm, IPC Low Density)
pins: 1 VPOS (power) "Supply Voltage Pin. Operational range 2.7 V to 5.5 V", 2 IREF (out) "Output Reference Control Pin. Internal reference mode enabled when pin is left open; otherwise, this pin should be tied to VPOS. Do not ground this pin", 3 RFIN (in) "Signal Input Pin. Must be driven from an ac-coupled source. The low frequency real input impedance is 225 Ohm", 4 PWDN (in) "Power-Down Pin. For the device to operate as a detector, it needs a logical low input (less than 100 mV). [see datasheet.]", 5 COMM (power) "Device Ground Pin", 6 FLTR "By placing a capacitor between this pin and VPOS, the corner frequency of the modulation filter is lowered. The on-chip filter is formed with 27 pF||2 kOhm for small input signals", 7 VRMS (out) "Output Pin. Near rail-to-rail voltage output with limited current drive capabilities. Expected load >10 kOhm to ground", 8 SREF (in) "Supply Reference Control Pin. To enable supply reference mode, this pin must be connected to VPOS; otherwise, it should be connected to COMM (ground)"

## AD8361ARM-REEL7
designator U?
LF to 2.5 GHz TruPwr™ Detector, 5µs Response Time, RM-8, 1000 	Reel; Product Description: Low Power RMS Detector; RF Frequency (MHz): 2.5GHz; Dynamic Range (dB): 30dB; Temp Stability (dB): 250mdB; Voltage Supply (V): 2.7 to 5.5; Supply Current: 1.1mA; Output Response: Linear in Voltage; DatasheetVersion: Rev. C; PackageVersion: Aug-2005; PackageReference: RM-8; PackageDescription: 8-Lead Mini Small Outline Package [MSOP]; Response Time (ns typ): 5µs; Code_JEDEC: MO-187-AA; ComponentLink1Description: Manufacturer URL; ComponentLink1URL: www.analog.com; ComponentLink2Description: Datasheet; ComponentLink2URL: http://www.analog.com/static/imported-files/data_sheets/AD8361.pdf; ComponentLink3Description: Package Specification; ComponentLink3URL: http://www.analog.com/static/imported-files/packages/PKG_PDF/MSOP%28RM%29/RM_8.pdf
footprint ADI-RM-8_N (TSOP, 8-Leads, Body 3x3mm, Pitch 0.65mm, IPC Medium Density)
footprint ADI-RM-8_L (TSOP, 8-Leads, Body 3x3mm, Pitch 0.65mm, IPC High Density)
footprint ADI-RM-8_M (TSOP, 8-Leads, Body 3x3mm, Pitch 0.65mm, IPC Low Density)
pins: 1 VPOS (power) "Supply Voltage Pin. Operational range 2.7 V to 5.5 V", 2 IREF (out) "Output Reference Control Pin. Internal reference mode enabled when pin is left open; otherwise, this pin should be tied to VPOS. Do not ground this pin", 3 RFIN (in) "Signal Input Pin. Must be driven from an ac-coupled source. The low frequency real input impedance is 225 Ohm", 4 PWDN (in) "Power-Down Pin. For the device to operate as a detector, it needs a logical low input (less than 100 mV). [see datasheet.]", 5 COMM (power) "Device Ground Pin", 6 FLTR "By placing a capacitor between this pin and VPOS, the corner frequency of the modulation filter is lowered. The on-chip filter is formed with 27 pF||2 kOhm for small input signals", 7 VRMS (out) "Output Pin. Near rail-to-rail voltage output with limited current drive capabilities. Expected load >10 kOhm to ground", 8 SREF (in) "Supply Reference Control Pin. To enable supply reference mode, this pin must be connected to VPOS; otherwise, it should be connected to COMM (ground)"

## AD8361ARMZ
designator U?
LF to 2.5 GHz TruPwr™ Detector, 5µs Response Time, RM-8, Pb-Free, 50 Tube; Product Description: Low Power RMS Detector; RF Frequency (MHz): 2.5GHz; Dynamic Range (dB): 30dB; Temp Stability (dB): 250mdB; Voltage Supply (V): 2.7 to 5.5; Supply Current: 1.1mA; Output Response: Linear in Voltage; DatasheetVersion: Rev. C; PackageVersion: Aug-2005; PackageReference: RM-8; PackageDescription: 8-Lead Mini Small Outline Package [MSOP]; Response Time (ns typ): 5µs; Code_JEDEC: MO-187-AA; ComponentLink1Description: Manufacturer URL; ComponentLink1URL: www.analog.com; ComponentLink2Description: Datasheet; ComponentLink2URL: http://www.analog.com/static/imported-files/data_sheets/AD8361.pdf; ComponentLink3Description: Package Specification; ComponentLink3URL: http://www.analog.com/static/imported-files/packages/PKG_PDF/MSOP%28RM%29/RM_8.pdf
footprint ADI-RM-8_N (TSOP, 8-Leads, Body 3x3mm, Pitch 0.65mm, IPC Medium Density)
footprint ADI-RM-8_L (TSOP, 8-Leads, Body 3x3mm, Pitch 0.65mm, IPC High Density)
footprint ADI-RM-8_M (TSOP, 8-Leads, Body 3x3mm, Pitch 0.65mm, IPC Low Density)
pins: 1 VPOS (power) "Supply Voltage Pin. Operational range 2.7 V to 5.5 V", 2 IREF (out) "Output Reference Control Pin. Internal reference mode enabled when pin is left open; otherwise, this pin should be tied to VPOS. Do not ground this pin", 3 RFIN (in) "Signal Input Pin. Must be driven from an ac-coupled source. The low frequency real input impedance is 225 Ohm", 4 PWDN (in) "Power-Down Pin. For the device to operate as a detector, it needs a logical low input (less than 100 mV). [see datasheet.]", 5 COMM (power) "Device Ground Pin", 6 FLTR "By placing a capacitor between this pin and VPOS, the corner frequency of the modulation filter is lowered. The on-chip filter is formed with 27 pF||2 kOhm for small input signals", 7 VRMS (out) "Output Pin. Near rail-to-rail voltage output with limited current drive capabilities. Expected load >10 kOhm to ground", 8 SREF (in) "Supply Reference Control Pin. To enable supply reference mode, this pin must be connected to VPOS; otherwise, it should be connected to COMM (ground)"

## AD8361ARMZ-REEL
designator U?
LF to 2.5 GHz TruPwr™ Detector, 5µs Response Time, RM-8, Pb-Free, 3000 	Reel; Product Description: Low Power RMS Detector; RF Frequency (MHz): 2.5GHz; Dynamic Range (dB): 30dB; Temp Stability (dB): 250mdB; Voltage Supply (V): 2.7 to 5.5; Supply Current: 1.1mA; Output Response: Linear in Voltage; DatasheetVersion: Rev. C; PackageVersion: Aug-2005; PackageReference: RM-8; PackageDescription: 8-Lead Mini Small Outline Package [MSOP]; Response Time (ns typ): 5µs; Code_JEDEC: MO-187-AA; ComponentLink1Description: Manufacturer URL; ComponentLink1URL: www.analog.com; ComponentLink2Description: Datasheet; ComponentLink2URL: http://www.analog.com/static/imported-files/data_sheets/AD8361.pdf; ComponentLink3Description: Package Specification; ComponentLink3URL: http://www.analog.com/static/imported-files/packages/PKG_PDF/MSOP%28RM%29/RM_8.pdf
footprint ADI-RM-8_N (TSOP, 8-Leads, Body 3x3mm, Pitch 0.65mm, IPC Medium Density)
footprint ADI-RM-8_L (TSOP, 8-Leads, Body 3x3mm, Pitch 0.65mm, IPC High Density)
footprint ADI-RM-8_M (TSOP, 8-Leads, Body 3x3mm, Pitch 0.65mm, IPC Low Density)
pins: 1 VPOS (power) "Supply Voltage Pin. Operational range 2.7 V to 5.5 V", 2 IREF (out) "Output Reference Control Pin. Internal reference mode enabled when pin is left open; otherwise, this pin should be tied to VPOS. Do not ground this pin", 3 RFIN (in) "Signal Input Pin. Must be driven from an ac-coupled source. The low frequency real input impedance is 225 Ohm", 4 PWDN (in) "Power-Down Pin. For the device to operate as a detector, it needs a logical low input (less than 100 mV). [see datasheet.]", 5 COMM (power) "Device Ground Pin", 6 FLTR "By placing a capacitor between this pin and VPOS, the corner frequency of the modulation filter is lowered. The on-chip filter is formed with 27 pF||2 kOhm for small input signals", 7 VRMS (out) "Output Pin. Near rail-to-rail voltage output with limited current drive capabilities. Expected load >10 kOhm to ground", 8 SREF (in) "Supply Reference Control Pin. To enable supply reference mode, this pin must be connected to VPOS; otherwise, it should be connected to COMM (ground)"